# Altium footprint library PcbLib2.PcbLib: 45 footprints (part 1 of 3)
Each footprint in its own frame and in the unit in brackets; x right, y up, seen from the top. Pads: shape width x height; smd on the part's side, far side on the other; paste and mask are expansions set on the pad; w line width, h text height; cw(c..) or ccw(c..) is an arc to the next point about the centre after c.
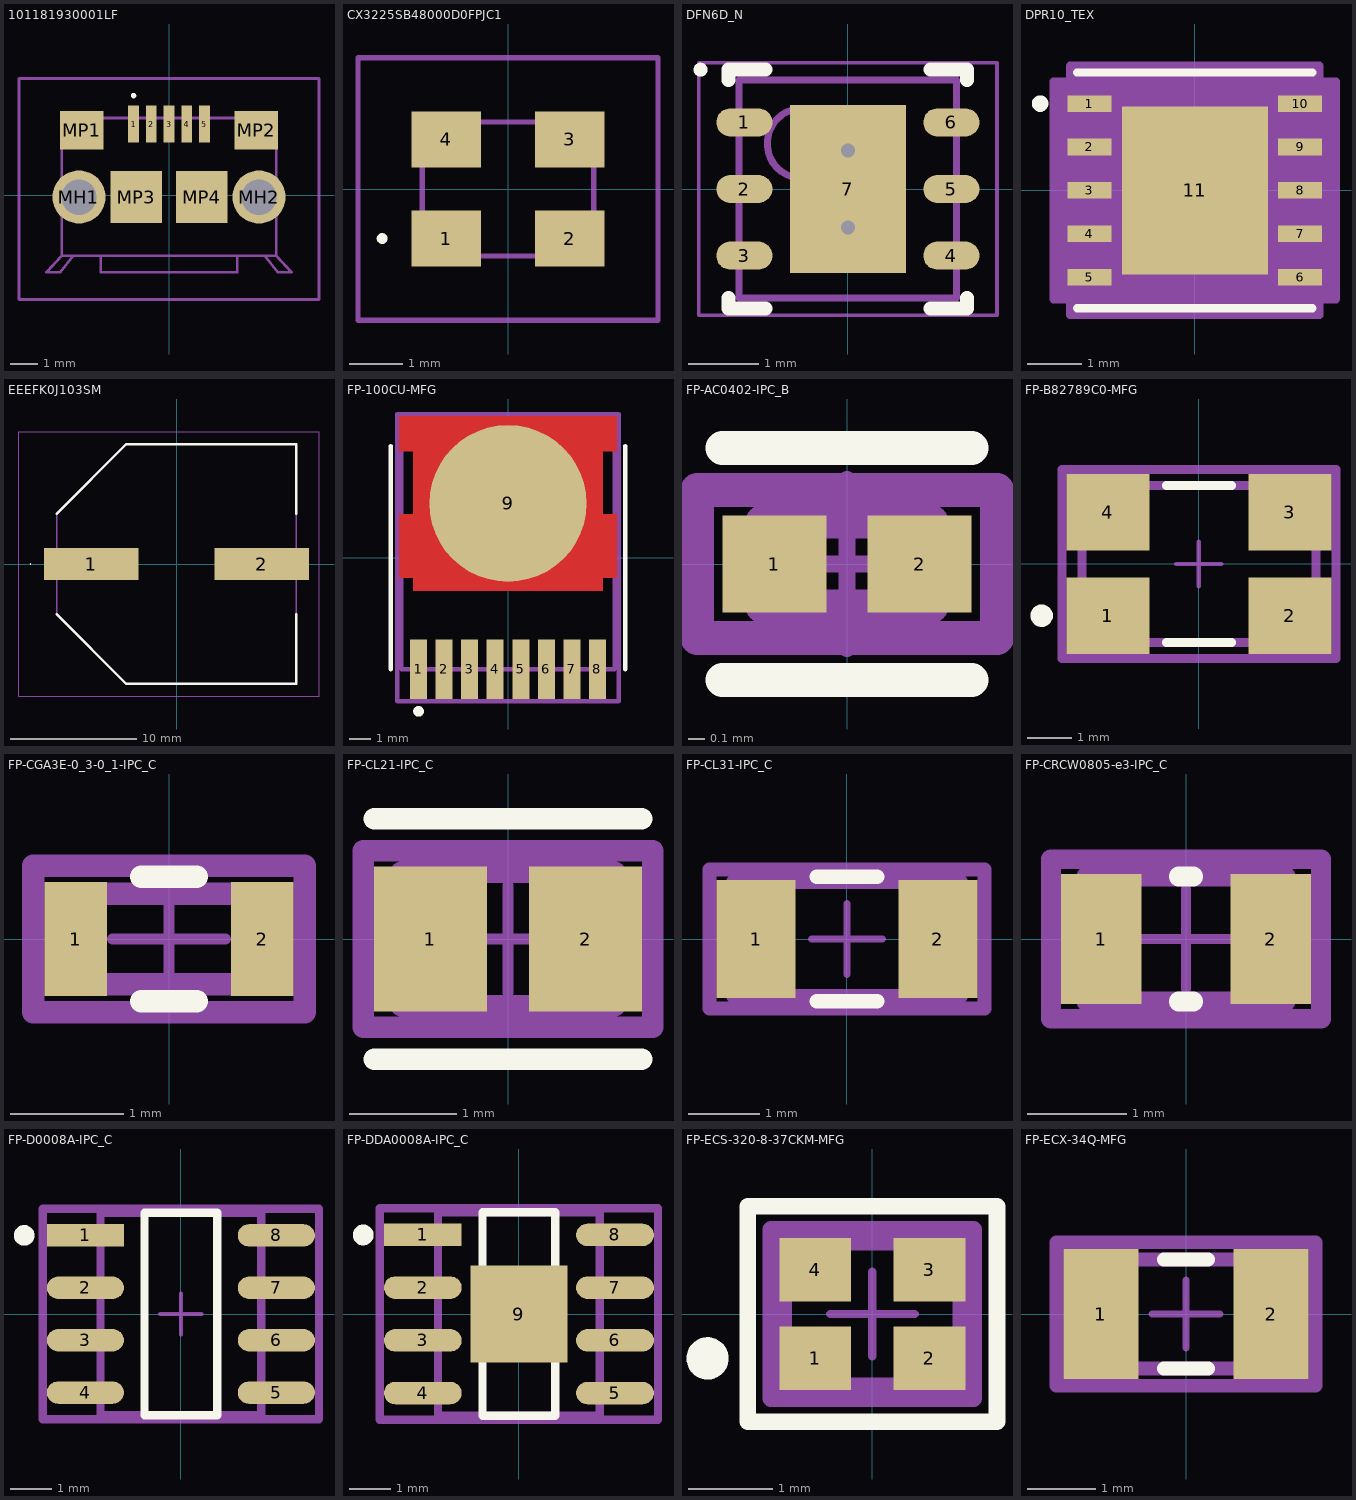
[diagram p0: the footprints below, top view; thin cyan lines are the x and y axes]

## 101181930001LF [mm]
pads (11):
  rect 0.4x1.35 smd: 1(-1.3,2.605) 2(-0.65,2.605) 3(0,2.605) 4(0.65,2.605) 5(1.3,2.605)
  round 1.95 hole 1.3: MH1(-3.3,-0.07) MH2(3.3,-0.07)
  rect 1.6x1.4 smd: MP1(-3.2,2.38) MP2(3.2,2.38)
  rect 1.9x1.9 smd: MP3(-1.2,-0.07) MP4(1.2,-0.07)
Top Overlay:
  lines w0.1: -1.3,3.6 cw(c-1.3,3.65) -1.3,3.7 cw(c-1.3,3.65) -1.3,3.6
Top 3D Body:
  lines w0.1: -3.5,-2.22 -4,-2.83 -4.5,-2.83 -3.93,-2.22 ; -2.5,-2.22 -2.5,-2.83 2.5,-2.83 2.5,-2.22 ; 3.5,-2.22 4,-2.83 4.5,-2.83 3.93,-2.22 ; -3.93,-2.22 -3.93,2.83 3.93,2.83 3.93,-2.22 ; -3.93,-2.22 3.93,-2.22
Top Courtyard:
  lines w0.1: -5.5,-3.83 -5.5,4.28 5.5,4.28 5.5,-3.83 -5.5,-3.83
3D body "10118193-0001LF.stp": height 2.81, standoff -0.79, extent -4.098,-2.731 3.758,2.93

## CX3225SB48000D0FPJC1 [mm]
pads (4):
  rect 1.3x1.05 smd: 1(-1.15,-0.925) 2(1.15,-0.925) 3(1.15,0.925) 4(-1.15,0.925)
Top Overlay:
  lines w0.1: -2.4,-0.925 cw(c-2.35,-0.925) -2.3,-0.925 cw(c-2.35,-0.925) -2.4,-0.925
Top 3D Body:
  lines w0.1: -1.6,-1.25 -1.6,1.25 1.6,1.25 1.6,-1.25 -1.6,-1.25
Top Courtyard:
  lines w0.1: -2.8,-2.45 -2.8,2.45 2.8,2.45 2.8,-2.45 -2.8,-2.45
3D body "CX3225SB48000D0FPJC1.stp": height 0.7, standoff 0, extent -1.695,-1.345 1.695,1.345

## DFN6D_N [mm] "SON, 6-Leads, Body 3x3mm, Pitch 0.95mm, Thermal Pad 2.4x1.65mm, IPC Medium Density"
height 0.95
pads (7):
  oval 0.8x0.4 smd: 1(-1.475,0.95) 2(-1.475,0) 3(-1.475,-0.95) 4(1.475,-0.95) 5(1.475,0) 6(1.475,0.95)
  rect 1.65x2.4 smd: 7(0,0)
via 0,0.55 diameter 0.5 hole 0.2
via 0,-0.55 diameter 0.5 hole 0.2
Top Overlay:
  circle w0.1: c-2.1,1.7 r0.05
  lines w0.2: -1.7,-1.55 -1.7,-1.7 -1.175,-1.7 ; -1.7,1.55 -1.7,1.7 -1.175,1.7 ; 1.175,-1.7 1.7,-1.7 1.7,-1.55 ; 1.175,1.7 1.7,1.7 1.7,1.55
Top 3D Body:
  circle w0.1: c-0.65,0.65 r0.5
  lines w0.1: -1.55,-1.55 -1.55,1.55 1.55,1.55 1.55,-1.55 -1.55,-1.55
Top Courtyard:
  lines w0.05: -2.125,-1.8 -2.125,1.8 2.125,1.8 2.125,-1.8 -2.125,-1.8
  lines w0.1: -0.5,0 0.5,0 ; 0,-0.5 0,0.5
3D body: height 0.95, standoff 0, extent -1.55,-1.55 1.55,1.55

## DPR10_TEX [mil]
pads (11):
  rect 32x12 smd paste+0 mask+0: 1(-76.5,62.99) 2(-76.5,31.5) 3(-76.5,0) 4(-76.5,-31.5) 5(-76.5,-62.99) 6(76.5,-62.99) 7(76.5,-31.5) 8(76.5,0) 9(76.5,31.5) 10(76.5,62.99)
  rect 106x122 smd paste+0 mask+0: 11(0,0)
Top Overlay:
  circle w6: c-112.25,62.99 r3
  lines w6: -85.5,-85.5 85.5,-85.5 ; -85.5,85.5 85.5,85.5
Top Paste:
  region: 49.06,-3.94 3.94,-3.94 3.94,-57.06 49.06,-57.06
  region: 49.06,57.06 3.94,57.06 3.94,3.94 49.06,3.94
  region: -3.94,-3.94 -49.06,-3.94 -49.06,-57.06 -3.94,-57.06
  region: -3.94,57.06 -49.06,57.06 -49.06,3.94 -3.94,3.94
Top 3D Body:
  circle w6: c-60.5,62.99 r3
  lines w0: -12,80.5 ccw(c0,80.5) 12,80.5
  lines w1: -80.5,-80.5 -80.5,80.5 80.5,80.5 80.5,-80.5 -80.5,-80.5
Top Courtyard:
  region: -90.5,-78.99 -102.5,-78.99 -102.5,78.99 -90.5,78.99 -90.5,90.5 90.5,90.5 90.5,78.99 102.5,78.99 102.5,-78.99 90.5,-78.99 90.5,-90.5 -90.5,-90.5
  lines w6: -102.5,-78.99 -90.5,-78.99 -90.5,-90.5 90.5,-90.5 90.5,-78.99 102.5,-78.99 102.5,78.99 90.5,78.99 90.5,90.5 -90.5,90.5 -90.5,78.99 -102.5,78.99 -102.5,-78.99
3D body "DPR10_TEX.step": height 32.09, standoff 0, extent -80.51,-80.51 80.51,80.51

## EEEFK0J103SM [mm]
pads (2):
  rect 7.5x2.5 smd: 1(-6.75,0) 2(6.75,0)
Top Overlay:
  lines w0.05: -11.625,0 cw(c-11.6,0) -11.575,0 cw(c-11.6,0) -11.625,0
  lines w0.2: -9.5,-4 -4,-9.5 9.5,-9.5 9.5,-4 ; -9.5,4 -4,9.5 9.5,9.5 9.5,4
Top 3D Body:
  lines w0.1: -9.5,4 -4,9.5 ; -9.5,4 -9.5,-4 -4,-9.5 9.5,-9.5 9.5,9.5 -4,9.5 ; -9.5,4 -4,9.5
Top Courtyard:
  lines w0.05: -12.5,-10.5 -12.5,10.5 11.3,10.5 11.3,-10.5 -12.5,-10.5
3D body "EEV-FK1K471M.stp": height 16.5, standoff 0, extent -10.2,-9.5 10.2,9.5

## FP-100CU-MFG [mm]
pads (9):
  rect 0.8x2.8 smd paste+0 mask+0: 1(-4.2,-5.24) 2(-3,-5.24) 3(-1.8,-5.24) 4(-0.6,-5.24) 5(0.6,-5.24) 6(1.8,-5.24) 7(3,-5.24) 8(4.2,-5.24)
  round 7.371 smd paste+0 mask+0: 9(0,2.545)
Top Layer:
  region: -5.1,6.64 5.1,6.64 5.1,4.99 4.45,4.99 4.45,2.04 5.1,2.04 5.1,-0.95 4.45,-0.95 4.45,-1.55 -4.45,-1.55 -4.45,-0.95 -5.1,-0.95 -5.1,2.04 -4.45,2.04 -4.45,4.99 -5.1,4.99
Top Overlay:
  circle w0.25: c-4.2,-7.215 r0.125
  lines w0.2: -5.5,-5.24 -5.5,5.24 ; 5.5,-5.24 5.5,5.24
Top Assembly:
  lines w0.2: -5.2,-6.74 -5.2,6.74 5.2,6.74 5.2,-6.74 -5.2,-6.74
  text ".Designator" at 0,-0.001 h1
Top 3D Body:
  lines w0.2: -5,-5.24 -5,5.24 5,5.24 5,-5.24 -5,-5.24
Top Courtyard:
  lines w0.2: -5.2,-6.74 -5.2,6.74 5.2,6.74 5.2,-6.74 -5.2,-6.74
Top Component Center:
  lines w0.1: -0.5,0 0.5,0 ; 0,-0.5 0,0.5
3D body "Trans_ON_Semiconductor_FDBL86210-F085_eec.STEP": height 0.25, standoff 0, extent -5.2,-6.74 5.2,6.74

## FP-AC0402-IPC_B [mm]
pads (2):
  rect 0.615x0.572 smd paste+0 mask+0: 1(-0.429,0) 2(0.429,0)
Top Overlay:
  lines w0.2: -0.736,-0.686 0.736,-0.686 ; -0.736,0.686 0.736,0.686
Top Assembly:
  lines w0.2: -0.886,-0.436 -0.886,0.436 0.886,0.436 0.886,-0.436 -0.886,-0.436
  text ".Designator" at 0,0.188 h1
Top 3D Body:
  lines w0.2: -0.5,-0.25 -0.5,0.25 0.5,0.25 0.5,-0.25 -0.5,-0.25
Top Courtyard:
  lines w0.2: -0.886,-0.436 -0.886,0.436 0.886,0.436 0.886,-0.436 -0.886,-0.436
Top Component Center:
  lines w0.1: -0.5,0 0.5,0 ; 0,-0.5 0,0.5
3D body "Res_Yageo_AC0402FR-0716R2L_eec.STEP": height 0.25, standoff 0, extent -0.886,-0.436 0.886,0.436

## FP-B82789C0-MFG [mm]
pads (4):
  rect 1.85x1.7 smd paste+0 mask+0: 1(-2.025,-1.15) 2(2.025,-1.15) 3(2.025,1.15) 4(-2.025,1.15)
Top Overlay:
  circle w0.25: c-3.5,-1.15 r0.125
  lines w0.2: -0.725,-1.75 0.725,-1.75 ; -0.725,1.75 0.725,1.75
Top Assembly:
  lines w0.2: -3.05,-2.1 -3.05,2.1 3.05,2.1 3.05,-2.1 -3.05,-2.1
  text ".Designator" at 0,0.188 h1
Top 3D Body:
  lines w0.2: -2.6,-1.75 -2.6,1.75 2.6,1.75 2.6,-1.75 -2.6,-1.75
Top Courtyard:
  lines w0.2: -3.05,-2.1 -3.05,2.1 3.05,2.1 3.05,-2.1 -3.05,-2.1
Top Component Center:
  lines w0.1: -0.5,0 0.5,0 ; 0,-0.5 0,0.5
3D body "Ind_EPCOS_B82789C0104N002_eec.STEP": height 0.25, standoff 0, extent -3.05,-2.1 3.05,2.1

## FP-CGA3E-0_3-0_1-IPC_C [mm]
pads (2):
  rect 0.556x1.006 smd paste+0 mask+0: 1(-0.825,0) 2(0.825,0)
Top Overlay:
  lines w0.2: -0.247,-0.55 0.247,-0.55 ; -0.247,0.55 0.247,0.55
Top Assembly:
  lines w0.2: -1.203,-0.65 1.203,-0.65 1.203,0.65 -1.203,0.65 -1.203,-0.65
  text ".Designator" at 0,0.188 h1
Top 3D Body:
  lines w0.2: -0.8,-0.4 0.8,-0.4 0.8,0.4 -0.8,0.4 -0.8,-0.4
Top Courtyard:
  lines w0.2: -1.203,-0.65 1.203,-0.65 1.203,0.65 -1.203,0.65 -1.203,-0.65
Top Component Center:
  lines w0.1: -0.5,0 0.5,0 ; 0,-0.5 0,0.5
3D body "Cap_TDK_CGA3E3X7R1E334K080AB_eec.STEP": height 0.25, standoff 0, extent -1.203,-0.65 1.203,0.65

## FP-CL21-IPC_C [mm]
pads (2):
  rect 1.055x1.356 smd paste+0 mask+0: 1(-0.726,0) 2(0.726,0)
Top Overlay:
  lines w0.2: -1.253,-1.125 1.253,-1.125 ; -1.253,1.125 1.253,1.125
Top Assembly:
  lines w0.2: -1.353,-0.825 1.353,-0.825 1.353,0.825 -1.353,0.825 -1.353,-0.825
  text ".Designator" at 0,0.188 h1
Top 3D Body:
  lines w0.2: -1,-0.625 1,-0.625 1,0.625 -1,0.625 -1,-0.625
Top Courtyard:
  lines w0.2: -1.353,-0.825 1.353,-0.825 1.353,0.825 -1.353,0.825 -1.353,-0.825
Top Component Center:
  lines w0.1: -0.5,0 0.5,0 ; 0,-0.5 0,0.5
3D body "Cap_Samsung_CL21B273KBANNNC_eec.STEP": height 0.25, standoff 0, extent -1.353,-0.825 1.353,0.825

## FP-CL31-IPC_C [mm]
pads (2):
  rect 1.105x1.658 smd paste+0 mask+0: 1(-1.276,0) 2(1.276,0)
Top Overlay:
  lines w0.2: -0.424,-0.875 0.424,-0.875 ; -0.424,0.875 0.424,0.875
Top Assembly:
  lines w0.2: -1.929,-0.975 -1.929,0.975 1.929,0.975 1.929,-0.975 -1.929,-0.975
  text ".Designator" at 0,0.188 h1
Top 3D Body:
  lines w0.2: -1.6,-0.8 -1.6,0.8 1.6,0.8 1.6,-0.8 -1.6,-0.8
Top Courtyard:
  lines w0.2: -1.929,-0.975 -1.929,0.975 1.929,0.975 1.929,-0.975 -1.929,-0.975
Top Component Center:
  lines w0.1: -0.5,0 0.5,0 ; 0,-0.5 0,0.5
3D body "Cap_Samsung_CL31B105KOFNNNE_eec.STEP": height 0.25, standoff 0, extent -1.929,-0.975 1.929,0.975

## FP-CRCW0805-e3-IPC_C [mil]
pads (2):
  rect 31.75x51.5 smd paste+0 mask+0: 1(-33.5,0) 2(33.5,0)
Top Overlay:
  lines w7.87: -2.86,-24.61 2.86,-24.61 ; -2.86,24.61 2.86,24.61
Top Assembly:
  lines w7.87: -53.31,-31.5 -53.31,31.5 53.31,31.5 53.31,-31.5 -53.31,-31.5
  text ".Designator" at 0,7.39 h39.37
Top 3D Body:
  lines w7.87: -39.37,-24.61 -39.37,24.61 39.37,24.61 39.37,-24.61 -39.37,-24.61
Top Courtyard:
  lines w7.87: -53.31,-31.5 -53.31,31.5 53.31,31.5 53.31,-31.5 -53.31,-31.5
Top Component Center:
  lines w3.94: -19.68,0 19.68,0 ; 0,-19.68 0,19.68
3D body "Res_Vishay_CRCW0805100KFKEA_eec.STEP": height 10, standoff 0, extent -53.31,-31.5 53.31,31.5

## FP-D0008A-IPC_C [mm]
pads (8):
  rect 1.869x0.542 smd paste+0 mask+0: 1(-2.314,1.905)
  rrect100% 1.869x0.542 smd paste+0 mask+0: 2(-2.314,0.635) 3(-2.314,-0.635) 4(-2.314,-1.905) 5(2.314,-1.905) 6(2.314,-0.635) 7(2.314,0.635) 8(2.314,1.905)
Top Overlay:
  circle w0.25: c-3.798,1.905 r0.125
  lines w0.2: -0.879,-2.452 -0.879,2.452 0.879,2.452 0.879,-2.452 -0.879,-2.452
Top Assembly:
  lines w0.2: -3.348,-2.552 -3.348,2.552 3.348,2.552 3.348,-2.552 -3.348,-2.552
  text ".Designator" at 0,0.188 h1
Top 3D Body:
  lines w0.2: -1.947,-2.452 -1.947,2.452 1.947,2.452 1.947,-2.452 -1.947,-2.452
Top Courtyard:
  lines w0.2: -3.348,-2.552 -3.348,2.552 3.348,2.552 3.348,-2.552 -3.348,-2.552
Top Component Center:
  lines w0.1: -0.5,0 0.5,0 ; 0,-0.5 0,0.5
3D body "IC_Texas_Instruments_ISO7220ADR_eec.STEP": height 0.25, standoff 0, extent -3.348,-2.552 3.348,2.552

## FP-DDA0008A-IPC_C [mm]
pads (9):
  rect 1.874x0.542 smd paste+0 mask+0: 1(-2.316,1.905)
  rrect100% 1.874x0.542 smd paste+0 mask+0: 2(-2.316,0.635) 3(-2.316,-0.635) 4(-2.316,-1.905) 5(2.316,-1.905) 6(2.316,-0.635) 7(2.316,0.635) 8(2.316,1.905)
  rect 2.34x2.34 smd paste-1000 mask+0: 9(0,0)
Top Overlay:
  circle w0.25: c-3.753,1.905 r0.125
  lines w0.2: -0.879,-2.45 -0.879,2.45 0.879,2.45 0.879,-2.45 -0.879,-2.45
Top Paste:
  rectangle: -0.74,-0.74 0.74,0.74
Top Assembly:
  lines w0.2: -3.353,-2.55 -3.353,2.55 3.353,2.55 3.353,-2.55 -3.353,-2.55
  text ".Designator" at 0,0.188 h1
Top 3D Body:
  lines w0.2: -1.95,-2.45 -1.95,2.45 1.95,2.45 1.95,-2.45 -1.95,-2.45
Top Courtyard:
  lines w0.2: -3.353,-2.55 -3.353,2.55 3.353,2.55 3.353,-2.55 -3.353,-2.55
Top Component Center:
  lines w0.1: -0.5,0 0.5,0 ; 0,-0.5 0,0.5
3D body "IC_Texas_Instruments_LM3466MR-NOPB_eec.STEP": height 0.25, standoff 0, extent -3.353,-2.55 3.353,2.55

## FP-ECS-320-8-37CKM-MFG [mm]
pads (4):
  rect 0.85x0.75 smd paste+0 mask+0: 1(-0.675,-0.525) 2(0.675,-0.525) 3(0.675,0.525) 4(-0.675,0.525)
Top Overlay:
  circle w0.25: c-1.95,-0.525 r0.125
  lines w0.2: -1.475,-1.275 -1.475,1.275 1.475,1.275 1.475,-1.275 -1.475,-1.275
Top Assembly:
  lines w0.2: -1.2,-1 -1.2,1 1.2,1 1.2,-1 -1.2,-1
  text ".Designator" at 0,0.188 h1
Top 3D Body:
  lines w0.2: -1.05,-0.85 -1.05,0.85 1.05,0.85 1.05,-0.85 -1.05,-0.85
Top Courtyard:
  lines w0.2: -1.2,-1 -1.2,1 1.2,1 1.2,-1 -1.2,-1
Top Component Center:
  lines w0.1: -0.5,0 0.5,0 ; 0,-0.5 0,0.5
3D body "Crys_ECS_International_ECS-320-8-37CKM_eec.STEP": height 0.25, standoff 0, extent -1.2,-1 1.2,1

## FP-ECX-34Q-MFG [mm]
pads (2):
  rect 1.1x1.9 smd paste+0 mask+0: 1(-1.25,0) 2(1.25,0)
Top Overlay:
  lines w0.2: -0.325,-0.8 0.325,-0.8 ; -0.325,0.8 0.325,0.8
Top Assembly:
  lines w0.2: -1.9,-1.05 -1.9,1.05 1.9,1.05 1.9,-1.05 -1.9,-1.05
  text ".Designator" at 0,0.188 h1
Top 3D Body:
  lines w0.2: -1.65,-0.8 -1.65,0.8 1.65,0.8 1.65,-0.8 -1.65,-0.8
Top Courtyard:
  lines w0.2: -1.9,-1.05 -1.9,1.05 1.9,1.05 1.9,-1.05 -1.9,-1.05
Top Component Center:
  lines w0.1: -0.5,0 0.5,0 ; 0,-0.5 0,0.5
3D body "Crys_ECS_Inc_ECS-_327-9-34QCS-TR_eec.STEP": height 0.25, standoff 0, extent -1.9,-1.05 1.9,1.05